# EAGLE library part HALF-MINI-PCI-E (library mPCIe)
Half Mini PCI-E - Use at your own risk - Based on PCI-SIG Engineering Change Notice, March 16, 2006,
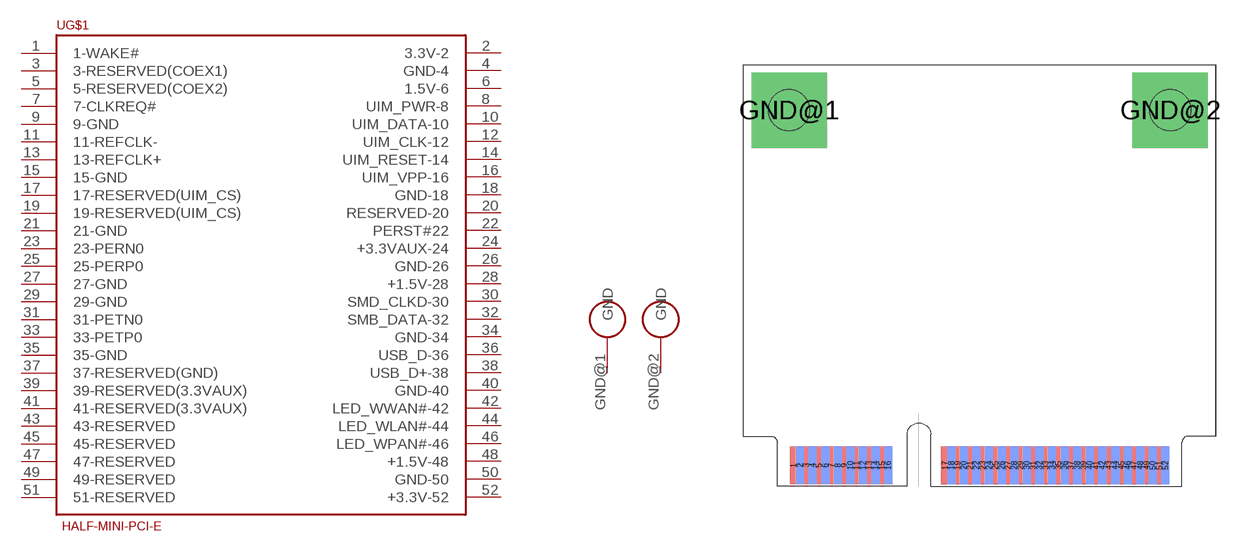
[diagram p0: symbol with the pads of HALF-MINI-PCI-E; footprint HALF-MINI-PCI-E]

Designator prefix -; gates G$1=MINI-PCI-E-1 G$2=GND-PIN-1 G$3=GND-PIN-1

## HALF-MINI-PCI-E  [HALF-MINI-PCI-E]
1  G$1:1-WAKE#
2  G$1:3.3V-2
3  G$1:3-RESERVED(COEX1)
4  G$1:GND-4
5  G$1:5-RESERVED(COEX2)
6  G$1:1.5V-6
7  G$1:7-CLKREQ#
8  G$1:UIM_PWR-8
9  G$1:9-GND
10  G$1:UIM_DATA-10
11  G$1:11-REFCLK-
12  G$1:UIM_CLK-12
13  G$1:13-REFCLK+
14  G$1:UIM_RESET-14
15  G$1:15-GND
16  G$1:UIM_VPP-16
17  G$1:17-RESERVED(UIM_CS)
18  G$1:GND-18
19  G$1:19-RESERVED(UIM_CS)
20  G$1:RESERVED-20
21  G$1:21-GND
22  G$1:PERST#22
23  G$1:23-PERN0
24  G$1:+3.3VAUX-24
25  G$1:25-PERP0
26  G$1:GND-26
27  G$1:27-GND
28  G$1:+1.5V-28
29  G$1:29-GND
30  G$1:SMD_CLKD-30
31  G$1:31-PETN0
32  G$1:SMB_DATA-32
33  G$1:33-PETP0
34  G$1:GND-34
35  G$1:35-GND
36  G$1:USB_D-36
37  G$1:37-RESERVED(GND)
38  G$1:USB_D+-38
39  G$1:39-RESERVED(3.3VAUX)
40  G$1:GND-40
41  G$1:41-RESERVED(3.3VAUX)
42  G$1:LED_WWAN#-42
43  G$1:43-RESERVED
44  G$1:LED_WLAN#-44
45  G$1:45-RESERVED
46  G$1:LED_WPAN#-46
47  G$1:47-RESERVED
48  G$1:+1.5V-48
49  G$1:49-RESERVED
50  G$1:GND-50
51  G$1:51-RESERVED
52  G$1:+3.3V-52
GND@1  G$2:GND  pwr
GND@2  G$3:GND  pwr

## Footprint HALF-MINI-PCI-E (pad centres in mm)
smd 0.508 x 2.4: 1 -7.95,1.35; 3 -7.15,1.35; 5 -6.35,1.35; 7 -5.55,1.35; 9 -4.75,1.35; 11 -3.95,1.35; 13 -3.15,1.35; 15 -2.35,1.35; 17 1.65,1.35; 19 2.45,1.35; 21 3.25,1.35; 23 4.05,1.35; 25 4.85,1.35; 27 5.65,1.35; 29 6.45,1.35; 31 7.25,1.35; 33 8.05,1.35; 35 8.85,1.35; 37 9.65,1.35; 39 10.45,1.35; 41 11.25,1.35; 43 12.05,1.35; 45 12.85,1.35; 47 13.65,1.35; 49 14.45,1.35; 51 15.25,1.35
smd 0.508 x 2.4 bottom: 2 -7.55,1.35; 4 -6.75,1.35; 6 -5.95,1.35; 8 -5.15,1.35; 10 -4.35,1.35; 12 -3.55,1.35; 14 -2.75,1.35; 16 -1.95,1.35; 18 2.05,1.35; 20 2.85,1.35; 22 3.65,1.35; 24 4.45,1.35; 26 5.25,1.35; 28 6.05,1.35; 30 6.85,1.35; 32 7.65,1.35; 34 8.45,1.35; 36 9.25,1.35; 38 10.05,1.35; 40 10.85,1.35; 42 11.65,1.35; 44 12.45,1.35; 46 13.25,1.35; 48 14.05,1.35; 50 14.85,1.35; 52 15.65,1.35
drill 2.6 pad 4.8 square: GND@1 -8.25,23.9; GND@2 15.95,23.9
hole 2.6 at -8.25,23.9
hole 2.6 at 15.95,23.9